# Altium footprint library 零散封装库.PcbLib: 18 footprints (part 1 of 2)
Each footprint in its own frame and in the unit in brackets; x right, y up, seen from the top. Pads: shape width x height; smd on the part's side, far side on the other; paste and mask are expansions set on the pad; w line width, h text height; cw(c..) or ccw(c..) is an arc to the next point about the centre after c.
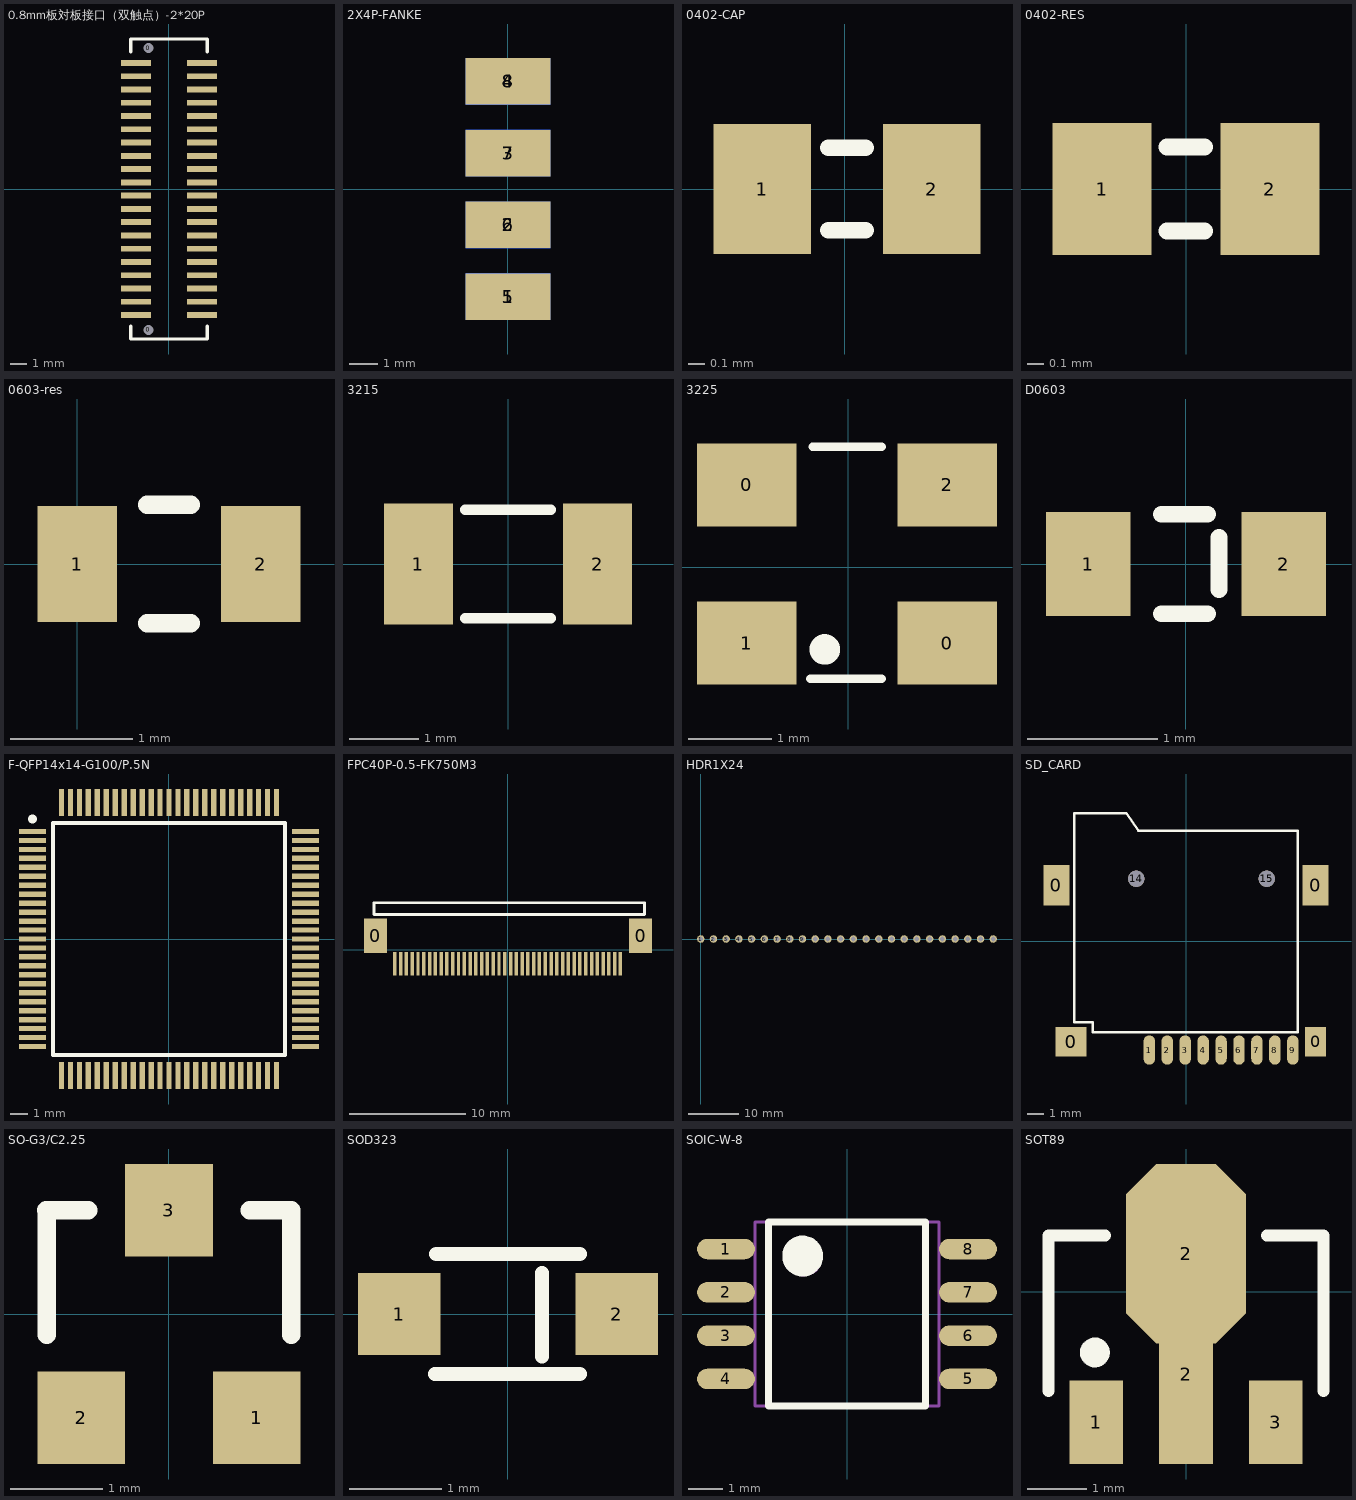
[diagram p0: the footprints below, top view; thin cyan lines are the x and y axes]

## 0.8mm板対板接口（双触点）-2*20P [mm]
pads (42):
  round 0.5 hole 0.6: 0(-1.25,-8.5) 0(-1.25,8.5)
  rect 1.8x0.35 smd: 1(-2,7.6) 2(2,7.6) 3(-2,6.8) 4(2,6.8) 5(-2,6) 6(2,6) 7(-2,5.2) 8(2,5.2) 9(-2,4.4) 10(2,4.4) 11(-2,3.6) 12(2,3.6) 13(-2,2.8) 14(2,2.8) 15(-2,2) 16(2,2) 17(-2,1.2) 18(2,1.2) 19(-2,0.4) 20(2,0.4) 21(-2,-0.4) 22(2,-0.4) 23(-2,-1.2) 24(2,-1.2) 25(-2,-2) 26(2,-2) 27(-2,-2.8) 28(2,-2.8) 29(-2,-3.6) 30(2,-3.6) 31(-2,-4.4) 32(2,-4.4) 33(-2,-5.2) 34(2,-5.2) 35(-2,-6) 36(2,-6) 37(-2,-6.8) 38(2,-6.8) 39(-2,-7.6) 40(2,-7.6)
Top Overlay:
  lines w0.203: -2.302,-8.29 -2.302,-9.052 2.302,-9.052 2.302,-8.29 ; -2.302,8.29 -2.302,9.052 2.302,9.052 2.302,8.29
3D body "SGDBF-08-040P-H30.STEP": height 2.95, standoff -0.6, extent -1.898,-8.442 3.302,9.458

## 2X4P-FANKE [mm]
pads (8):
  rect 3x1.65 smd: 1(0,-3.81) 2(0,-1.27) 3(0,1.27) 4(0,3.81)
  rect 3x1.65 smd far side: 5(0,-3.81) 6(0,-1.27) 7(0,1.27) 8(0,3.81)
3D body "User Library-2_54mm Male Header (4x2).STEP": height 1.84, standoff -3.14, extent -1.249,-5.08 10.291,5.08

## 0402-CAP [mm] "Chip Capacitor, 2-Leads, Body 1.00x0.50mm, IPC Medium Density"
height 0.5
pads (2):
  rect 0.6x0.8 smd: 1(-0.508,0) 2(0.533,0)
Top Overlay:
  lines w0.102: -0.102,-0.254 0.127,-0.254 ; -0.102,0.254 0.127,0.254
3D body "CAPCP1005X05N.step": height 0.5, standoff 0, extent -0.525,-0.275 0.525,0.275

## 0402-RES [mm] "Chip Resistor, 2-Leads, Body 1.00x0.50mm, IPC Medium Density"
height 0.5
pads (2):
  rect 0.6x0.8 smd: 1(-0.508,0) 2(0.508,0)
Top Overlay:
  lines w0.102: -0.117,-0.254 0.112,-0.254 ; -0.117,0.254 0.112,0.254
3D body "RESC1005X05N.step": height 0.5, standoff 0, extent -0.527,-0.275 0.523,0.275

## 0603-res [mm]
height 0.35
pads (2):
  rect 0.65x0.95 smd: 1(0,0) 2(1.5,0)
Top Overlay:
  lines w0.152: 0.572,-0.483 0.928,-0.483 ; 0.572,0.483 0.928,0.483
3D body "0603-res.step": height 0.35, standoff 0, extent -0.125,-0.475 1.625,0.475

## 3215 [mm]
pads (2):
  rect 1x1.75 smd: 1(-1.3,0) 2(1.3,0)
Top Overlay:
  lines w0.152: -0.62,-0.787 0.62,-0.787 ; -0.62,0.787 0.62,0.787
3D body "CRYTAL-SMD-SX3215.STEP": height 0.81, standoff 0, extent -1.6,-0.75 1.6,0.75

## 3225 [mm]
pads (4):
  rect 1.2x1 smd: 0(-1.219,0.991) 0(1.194,-0.914) 1(-1.219,-0.914) 2(1.194,0.991)
Top Overlay:
  circle w0.254: c-0.279,-0.991 r0.057
  lines w0.102: -0.457,-1.346 0.406,-1.346 ; -0.428,1.448 0.406,1.448
3D body "CRYTAL-SMD-SX3225.STEP": height 0.81, standoff 0, extent -1.625,-1.194 1.575,1.306

## D0603 [mm]
pads (2):
  rect 0.65x0.8 smd: 1(-0.75,0) 2(0.75,0)
Top Overlay:
  lines w0.127: -0.19,-0.383 0.165,-0.383 ; -0.19,0.383 0.165,0.383 ; 0.253,-0.196 0.253,0.204
3D body "LED-0603.STEP": height 0.52, standoff -0.03, extent -0.851,-0.387 0.8,0.413

## F-QFP14x14-G100/P.5N [mm] "QFP; 100 Leads; Body 14 x 14 mm; Pitch 0.5 mm"
height 1.7
pads (100):
  rect 1.5x0.3 smd: 1(-7.625,6) 2(-7.625,5.5) 3(-7.625,5) 4(-7.625,4.5) 5(-7.625,4) 6(-7.625,3.5) 7(-7.625,3) 8(-7.625,2.5) 9(-7.625,2) 10(-7.625,1.5) 11(-7.625,1) 12(-7.625,0.5) 13(-7.625,0) 14(-7.625,-0.5) 15(-7.625,-1) 16(-7.625,-1.5) 17(-7.625,-2) 18(-7.625,-2.5) 19(-7.625,-3) 20(-7.625,-3.5) 21(-7.625,-4) 22(-7.625,-4.5) 23(-7.625,-5) 24(-7.625,-5.5) 25(-7.625,-6) 51(7.625,-6) 52(7.625,-5.5) 53(7.625,-5) 54(7.625,-4.5) 55(7.625,-4) 56(7.625,-3.5) 57(7.625,-3) 58(7.625,-2.5) 59(7.625,-2) 60(7.625,-1.5) 61(7.625,-1) 62(7.625,-0.5) 63(7.625,0) 64(7.625,0.5) 65(7.625,1) 66(7.625,1.5) 67(7.625,2) 68(7.625,2.5) 69(7.625,3) 70(7.625,3.5) 71(7.625,4) 72(7.625,4.5) 73(7.625,5) 74(7.625,5.5) 75(7.625,6)
  rect 0.3x1.5 smd: 26(-6,-7.625) 27(-5.5,-7.625) 28(-5,-7.625) 29(-4.5,-7.625) 30(-4,-7.625) 31(-3.5,-7.625) 32(-3,-7.625) 33(-2.5,-7.625) 34(-2,-7.625) 35(-1.5,-7.625) 36(-1,-7.625) 37(-0.5,-7.625) 38(0,-7.625) 39(0.5,-7.625) 40(1,-7.625) 41(1.5,-7.625) 42(2,-7.625) 43(2.5,-7.625) 44(3,-7.625) 45(3.5,-7.625) 46(4,-7.625) 47(4.5,-7.625) 48(5,-7.625) 49(5.5,-7.625) 50(6,-7.625) 76(6,7.625) 77(5.5,7.625) 78(5,7.625) 79(4.5,7.625) 80(4,7.625) 81(3.5,7.625) 82(3,7.625) 83(2.5,7.625) 84(2,7.625) 85(1.5,7.625) 86(1,7.625) 87(0.5,7.625) 88(0,7.625) 89(-0.5,7.625) 90(-1,7.625) 91(-1.5,7.625) 92(-2,7.625) 93(-2.5,7.625) 94(-3,7.625) 95(-3.5,7.625) 96(-4,7.625) 97(-4.5,7.625) 98(-5,7.625) 99(-5.5,7.625) 100(-6,7.625)
Top Overlay:
  circle w0.25: c-7.625,6.7 r0.125
  lines w0.2: -6.475,-6.475 6.475,-6.475 6.475,6.475 -6.475,6.475 -6.475,-6.475
3D body "stm32h750vbt6.x_t": height 1.48, standoff 0, extent -8.002,-7.998 7.998,8.002

## FPC40P-0.5-FK750M3 [mm]
pads (42):
  rect 2x3 smd: 0(-11.465,1.202) 0(11.465,1.202)
  rect 0.3x2 smd: 1(9.721,-1.202) 2(9.221,-1.202) 3(8.721,-1.202) 4(8.221,-1.202) 5(7.721,-1.202) 6(7.221,-1.202) 7(6.721,-1.202) 8(6.221,-1.202) 9(5.721,-1.202) 10(5.221,-1.202) 11(4.721,-1.202) 12(4.221,-1.202) 13(3.721,-1.202) 14(3.221,-1.202) 15(2.721,-1.202) 16(2.221,-1.202) 17(1.721,-1.202) 18(1.221,-1.202) 19(0.721,-1.202) 20(0.221,-1.202) 21(-0.279,-1.202) 22(-0.779,-1.202) 23(-1.279,-1.202) 24(-1.779,-1.202) 25(-2.279,-1.202) 26(-2.779,-1.202) 27(-3.279,-1.202) 28(-3.779,-1.202) 29(-4.279,-1.202) 30(-4.779,-1.202) 31(-5.279,-1.202) 32(-5.779,-1.202) 33(-6.279,-1.202) 34(-6.779,-1.202) 35(-7.279,-1.202) 36(-7.779,-1.202) 37(-8.279,-1.202) 38(-8.779,-1.202) 39(-9.279,-1.202) 40(-9.779,-1.202)
Top Overlay:
  lines w0.254: -11.585,3.049 11.815,3.049 11.815,4.065 -11.585,4.065 -11.585,3.049
3D body "User Library-FPC-40-2.STEP": height 1.95, standoff 0, extent -12.23,-1.755 12.17,4.545

## HDR1X24 [mm] "Connector; Header; 24 Position"
pads (24):
  round 1.5 hole 0.9: 1(0,0) 2(2.54,0) 3(5.08,0) 4(7.62,0) 5(10.16,0) 6(12.7,0) 7(15.24,0) 8(17.78,0) 9(20.32,0) 10(22.86,0) 11(25.4,0) 12(27.94,0) 13(30.48,0) 14(33.02,0) 15(35.56,0) 16(38.1,0) 17(40.64,0) 18(43.18,0) 19(45.72,0) 20(48.26,0) 21(50.8,0) 22(53.34,0) 23(55.88,0) 24(58.42,0)

## SD_CARD [mm]
pads (15):
  rect 1.6x2.5 smd: 0(-7.953,3.429) 0(7.947,3.429)
  rect 1.9x1.8 smd: 0(-7.053,-6.171)
  rect 1.3x1.8 smd: 0(7.947,-6.171)
  oval 0.7x1.8 smd: 1(-2.253,-6.671) 2(-1.153,-6.671) 3(-0.053,-6.671) 4(1.047,-6.671) 5(2.147,-6.671) 6(3.247,-6.671) 7(4.347,-6.671) 8(5.447,-6.671) 9(6.547,-6.671)
  round 1 hole 1: 14(-3.053,3.829) 15(4.947,3.829)
Top Overlay:
  lines w0.152: -6.858,-4.953 -5.715,-4.953 -5.715,-5.588 -5.08,-5.588 6.401,-5.588 6.858,-5.588 6.858,6.782 -2.921,6.782 -3.658,7.849 -6.858,7.849 -6.858,-4.572 -6.858,-4.953
3D body "SDcard.STEP": height 2.05, standoff -0.4, extent -8,-7.4 8,7.85

## SO-G3/C2.25 [mm] "SOT-23; 3 Leads; Body 3.0 x 2.5 mm, inc. leads (LxW max)"
height 1.2
pads (3):
  rect 0.95x1 smd: 1(0.95,-1.125) 2(-0.95,-1.125) 3(0,1.125)
Top Overlay:
  lines w0.2: -1.328,1.125 -0.875,1.125 ; -1.325,-0.225 -1.325,1.125 ; 0.875,1.125 1.325,1.125 1.325,-0.225
3D body "SOT-23.STEP": height 1.11, standoff 0.01, extent -1.503,-1.26 1.498,1.24

## SOD323 [mil] "SODFL, 2-Leads, Body 1.30x2.60mm, IPC Medium Density"
height 39.37
pads (2):
  rect 35x35 smd: 1(-46.26,0) 2(46.26,0)
Top Overlay:
  lines w6: -31,-25.5 30.5,-25.5 ; -30.5,25.5 30.5,25.5 ; 14.44,-18 14.44,17.5
3D body "SOD323.step": height 39.37, standoff 0, extent -51.18,-27.56 51.18,27.56

## SOIC-W-8 [mm]
pads (8):
  oval 1.7x0.6 smd: 1(-3.55,1.905) 2(-3.55,0.635) 3(-3.55,-0.635) 4(-3.55,-1.905) 5(3.55,-1.905) 6(3.55,-0.635) 7(3.55,0.635) 8(3.55,1.905)
Top Overlay:
  circle w0.6: c-1.3,1.7 r0.3
  lines w0.2: -2.3,-2.7 -2.3,2.7 2.3,2.7 2.3,-2.7 -2.3,-2.7
Mechanical 13:
  circle w0.1: c-1.27,1.651 r0.5
  lines w0.1: -2.7,-2.7 -2.7,2.7 2.7,2.7 2.7,-2.7 -2.7,-2.7
3D body "SOIC-W-8.step": height 2.16, standoff 0, extent -3.95,-2.7 3.95,2.7

## SOT89 [mm] "SOT89, 3-Leads, Body 4.50x2.45mm, Pitch 1.50mm, Lead Span 4.1mm, IPC Medium Density"
height 1.6
pads (4):
  rect 0.9x1.4 smd: 1(-1.5,-2.181) 3(1.5,-2.181)
  rect 0.9x3 smd: 2(0,-1.381)
  oct 2x3 smd: 2(0,0.635)
Top Overlay:
  circle w0.25: c-1.524,-1.016 r0.125
  lines w0.2: -2.3,-1.659 -2.3,0.941 -1.35,0.941 ; 1.35,0.941 2.3,0.941 2.3,-1.659
Mechanical 13:
  lines w0.1: -2.3,-1.659 -2.3,0.941 ; 2.3,-1.659 2.3,0.941
3D body "SOT89-150P409X160-3N.step": height 1.6, standoff 0, extent -2.3,-2.581 2.3,1.469